# Altium schematic symbol library Solar_Phone_Charger.SchLib: 10 symbols
Pins are listed as number, name and electrical type; pins without a type are passive.

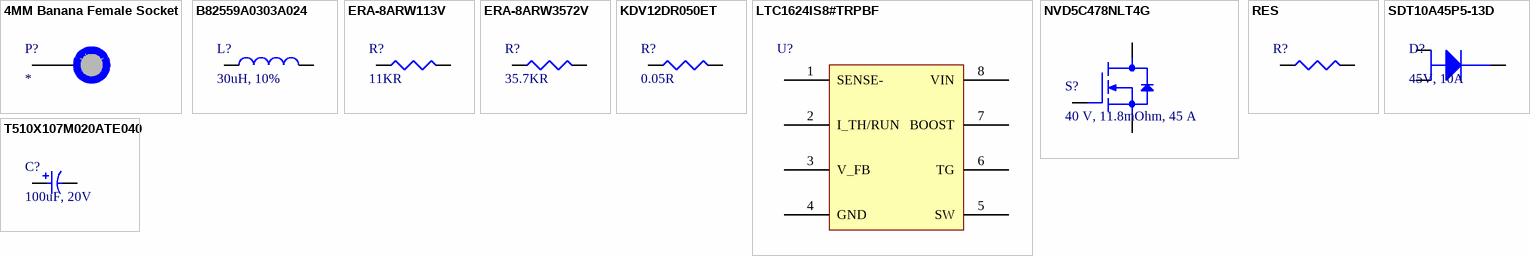
[diagram p0: symbols 4MM Banana Female Socket to T510X107M020ATE040]

## 4MM Banana Female Socket
designator P?
footprint 4MM Banana Female Socket
pins: 1

## B82559A0303A024
designator L?, comment 30uH, 10%
General Purpose Inductor, 30uH, 10%, 1 Element, Ferrite-Core, SMD, 9790; Manufacturer: TDK; Manufacturer Part Number: B82559A0303A024; Supplier 1: Digikey; RoHS: Yes; Category: Fixed Inductors; Stock 1: 910; Pricing 1: 1=8.34, 10=7.194, 25=6.6724 (USD); Supplier Part Number 1: 495-B82559A0303A024CT-ND
footprint ERU24
pins: 1, 2

## ERA-8ARW113V
designator R?, comment 11KR
Fixed Resistor, Thin Film, 0.25W, 11000ohm, 150V, 0.05% +/-Tol, 10ppm/Cel, Surface Mount, 1206; Manufacturer: Panasonic; Manufacturer Part Number: ERA-8ARW113V; Power: 250mW; Rated Temperature: 85°C; Temperature Coefficient: 10ppm/°C; Package Height: 0.6mm; Package Length: 3.2mm; Package Width: 1.6mm; Reference Standard: AEC-Q200; Supplier: Digikey; Supplier Part Number: P11KCTCT-ND; RoHS: Yes; Category: Chip SMD Resistors; Stock: 4456; Pricing: 1=1.53, 10=1.056, 50=0.7948, 100=0.6991, 500=0.54712 (USD); Mounting Technology: Surface Mount; Pins: 2; Case/Package: 1206; Terminal Finish: Nickel; Min Operating Temperature: -55°C; Max Operating Temperature: 155°C; Tolerance: 0.05%; JESD-609 Code: e3; Resistor Type: FIXED RESISTOR; Construction: Rectangular; Package Style: SMTMeter; Packaging: Tape and Reel; Value: 11kR; Technology: THIN FILM; Termination: Wraparound; Working Voltage: 150V; Reach SVHC Compliant: Yes; RoHS Compliant: Yes; ComponentLink1URL: https://datasheet.ciiva.com:443/pdfs/VipMasterIC/IC/PANA/PANA-S-A0009459258/PANA-S-A0009459258-1.pdf?src-supplier=IHS+Markit; ComponentLink1Description: https://datasheet.ciiva.com:443/pdfs/VipMasterIC/IC/PANA/PANA-S-A0009459258/PANA-S-A0009459258-1.pdf?src-supplier=IHS+Markit; ComponentLink2URL: https://media.digikey.com/pdf/Data%20Sheets/Panasonic%20Resistors%20Thermistors%20PDFs/ERA_Series_LE.pdf?src-supplier=Digikey; ComponentLink2Description: https://media.digikey.com/pdf/Data%20Sheets/Panasonic%20Resistors%20Thermistors%20PDFs/ERA_Series_LE.pdf?src-supplier=Digikey; ComponentLink3URL: http://www.farnell.com/datasheets/1937238.pdf?src-supplier=Farnell; ComponentLink3Description: http://www.farnell.com/datasheets/1937238.pdf?src-supplier=Farnell; ComponentLink4URL: http://www.farnell.com/datasheets/1937238.pdf?src-supplier=Element14; ComponentLink4Description: http://www.farnell.com/datasheets/1937238.pdf?src-supplier=Element14
footprint R1206
pins: 1, 2

## ERA-8ARW3572V
designator R?, comment 35.7KR
1206 Thin Film Chip Resistor / 1206 SMD Resistor 0.05% 10PPM 35.7 Kohm; Manufacturer: Panasonic; Manufacturer Part Number: ERA-8ARW3572V; Supplier: Digikey; Supplier Part Number: P18836CT-ND; RoHS: Yes; Category: Chip SMD Resistors; Stock: 958; Pricing: 1=1.53, 10=1.056, 50=0.7948, 100=0.6991, 500=0.54712 (USD); ComponentLink1URL: https://industrial.panasonic.com/cdbs/www-data/pdf/RDM0000/AOA0000C307.pdf?src-supplier=Digikey; ComponentLink1Description: https://industrial.panasonic.com/cdbs/www-data/pdf/RDM0000/AOA0000C307.pdf?src-supplier=Digikey
footprint R1206
pins: 1, 2

## KDV12DR050ET
designator R?, comment 0.05R
Fixed Resistor, Metal Film, 0.5W, 0.05ohm, 0.5% +/-Tol, 100ppm/Cel, Surface Mount, 1206; Manufacturer: Ohmite; Manufacturer Part Number: KDV12DR050ET; Supplier: Digikey; Supplier Part Number: 273-KDV12DR050ETCT-ND; RoHS: No; Category: Chip SMD Resistors; Stock: 2206; Pricing: 1=0.46, 10=0.312, 25=0.2428, 50=0.179, 100=0.1245, 250=0.10856, 500=0.0895, 1000=0.06475 (USD); RoHS Compliant: Yes
footprint R1206
pins: 1, 2

## LTC1624IS8#TRPBF
designator U?, comment Switching Controller  (value not drawn)
Switching Controller, Current-mode, 2A, 225kHz Switching Freq-Max, CMOS, PDSO8; Manufacturer: Analog Devices / Linear Technology; Manufacturer Part Number: LTC1624IS8#TRPBF; Package Body Material: Plastic; Control Technique: PULSE WIDTH MODULATION; Max Supply Voltage: 36V; Min Input Voltage: 3.5V; Nominal Supply Voltage: 15V; Channels: 1; Switcher Configuration: SINGLE; Time @ Peak Reflow Temperature-Max (s): 30s; Qualification Status: Not Qualified; Supplier 1: Digikey; RoHS: Yes; Category: Voltage Regulators - Switching; Stock 1: 2084; Pricing 1: 1=11.26, 10=10.351, 25=9.9216, 100=8.7419, 250=8.3128, 500=7.7765, 1000=7.13292 (USD); Case/Package: SOP; Pins: 8; Package Shape: Rectangular; Terminal Finish: Tin; Min Operating Temperature: -40°C; Max Operating Temperature: 85°C; JESD-609 Code: e3; Throw Configuration: SWITCHING CONTROLLER; Control Mode: CURRENT-MODE; JESD-30 Code: R-PDSO-G8; Moisture Sensitivity Level: 1; Max Output current: 2A; Package Style: SMALL OUTLINEMeter; Peak Reflow Temperature (Cel): 260°C; Surface Mount: Yes; Frequency: 225kHz; Technology: CMOS; Terminal Form: Gull Wing; Terminal Position: DUAL; Length: 4.9025mm; Width: 3.899mm; Height - Seated (Max): 1.752mm; Terminal Pitch: 1.27mm; Temperature Grade: INDUSTRIAL; Reach SVHC Compliant: Yes; RoHS Compliant: Yes; ComponentLink1URL: https://datasheet.ciiva.com:443/pdfs/VipMasterIC/IC/LITC/LITCS09260/LITCS09260-1.pdf?src-supplier=IHS+Markit; ComponentLink1Description: https://datasheet.ciiva.com:443/pdfs/VipMasterIC/IC/LITC/LITCS09260/LITCS09260-1.pdf?src-supplier=IHS+Markit; ComponentLink2URL: https://datasheet.ciiva.com/15110/getdatasheetpartid-44556-15110797.pdf?src-supplier=Verical; ComponentLink2Description: https://datasheet.ciiva.com/15110/getdatasheetpartid-44556-15110797.pdf?src-supplier=Verical; Supplier Part Number 1: 505-LTC1624IS8#TRPBFCT-ND
footprint LTC1624
pins: 1 SENSE-, 2 I_TH/RUN, 3 V_FB, 4 GND, 5 SW, 6 TG, 7 BOOST, 8 VIN

## NVD5C478NLT4G
designator S?, comment 40 V, 11.8mOhm, 45 A
Single N-Channel Power MOSFET, 40V, 45A, 7.7mΩ DPAK 2500 tape and reel; Manufacturer: ON Semiconductor; Manufacturer Part Number: NVD5C478NLT4G; Supplier 1: Digikey; RoHS: Yes; Category: MOSFETs; Stock 1: 6434; Pricing 1: 1=1.65, 10=1.368, 100=1.0891, 500=0.92158, 1000=0.78194 (USD); Reach SVHC Compliant: No; ComponentLink1URL: https://datasheet.ciiva.com:443/pdfs/VipMasterIC/IC/ONSM/ONSM-S-A0004900107/ONSM-S-A0004903403-1.pdf?src-supplier=IHS+Markit; ComponentLink1Description: https://datasheet.ciiva.com:443/pdfs/VipMasterIC/IC/ONSM/ONSM-S-A0004900107/ONSM-S-A0004903403-1.pdf?src-supplier=IHS+Markit; ComponentLink2URL: http://www.onsemi.com/pub/Collateral/NVD5C478NL-D.PDF?src-supplier=Digikey; ComponentLink2Description: http://www.onsemi.com/pub/Collateral/NVD5C478NL-D.PDF?src-supplier=Digikey; Supplier Part Number 1: NVD5C478NLT4GOSCT-ND
footprint DPAKSWITCH
pins: 1 G, 2 D, 3 S

## RES
designator R?
Generic 1206 Resistor; Manufacturer: Panasonic; Manufacturer Part Number: ERA-8ARW3572V; Supplier: Digikey; Supplier Part Number: P18836CT-ND; RoHS: Yes; Category: Chip SMD Resistors; Stock: 958; Pricing: 1=1.53, 10=1.056, 50=0.7948, 100=0.6991, 500=0.54712 (USD); ComponentLink1URL: https://industrial.panasonic.com/cdbs/www-data/pdf/RDM0000/AOA0000C307.pdf?src-supplier=Digikey; ComponentLink1Description: https://industrial.panasonic.com/cdbs/www-data/pdf/RDM0000/AOA0000C307.pdf?src-supplier=Digikey
footprint R1206
pins: 1, 2

## SDT10A45P5-13D
designator D?, comment 45V, 10A
Diode Schottky 45V 10A 5-Pin PowerDI T/R; Manufacturer: Diodes; Manufacturer Part Number: SDT10A45P5-13D; Supplier: Digikey; Supplier Part Number: 31-SDT10A45P5-13DCT-ND; RoHS: Yes; Stock: 4970; Pricing: 1=0.51, 10=0.394, 100=0.2362, 500=0.21866, 1000=0.14869, 2000=0.13689 (USD); Reach SVHC Compliant: No; ComponentLink1URL: https://datasheet.ciiva.com:443/pdfs/VipMasterIC/IC/DIOD/DIOD-S-A0008345900/DIOD-S-A0008345900-1.pdf?src-supplier=IHS+Markit; ComponentLink1Description: https://datasheet.ciiva.com:443/pdfs/VipMasterIC/IC/DIOD/DIOD-S-A0008345900/DIOD-S-A0008345900-1.pdf?src-supplier=IHS+Markit
footprint PowerDI5
pins: 1, 2, 3

## T510X107M020ATE040
designator C?, comment 100uF, 20V
Tantalum Capacitor, Polarized, Tantalum (dry/solid), 20V, 20% +Tol, 20% -Tol, 100uF, Surface Mount, 2917; Manufacturer: KEMET; Manufacturer Part Number: T510X107M020ATE040; ESR (Equivalent Series Resistance): 40mR; Leakage Current: 20uA; Ripple Current: 2.338A; Tan Delta: 0.06; Supplier: Digikey; Supplier Part Number: 399-4651-1-ND; RoHS: Yes; Category: Tantalum Capacitors; Stock: 12028; Pricing: 1=7, 10=6.066, 50=5.444, 100=4.7284 (USD); Mounting Technology: Surface Mount; Pins: 2; Dielectric Material: Tantalum; Package Shape: Rectangular; Case/Package: 2917; Terminal Finish: Nickel; Min Operating Temperature: -55°C; Max Operating Temperature: 125°C; JESD-609 Code: e3; Polarity: Polarized; Value: 100uF; Capacitor Type: Tantalum; Tolerance  (fill in as +-): 20%; Package Style: SMTMeter; Packaging: Tape and Reel; Tolerance (fill in as +-): 20%; Rated DC Voltage (URdc): 20V; Termination: J BEND; Length: 7.3mm; Width: 4.3mm; Height: 4mm; Reach SVHC Compliant: Yes; RoHS Compliant: Yes; ComponentLink1URL: https://datasheet.ciiva.com:443/pdfs/VipMasterIC/IC/KEME/KEME-S-A0009825253/KEME-S-A0009825253-1.pdf?src-supplier=IHS+Markit; ComponentLink1Description: https://datasheet.ciiva.com:443/pdfs/VipMasterIC/IC/KEME/KEME-S-A0009825253/KEME-S-A0009825253-1.pdf?src-supplier=IHS+Markit; ComponentLink2URL: https://datasheet.ciiva.com/263/kem-t2014-t510-263058.pdf?src-supplier=Digikey; ComponentLink2Description: https://datasheet.ciiva.com/263/kem-t2014-t510-263058.pdf?src-supplier=Digikey; ComponentLink3URL: https://datasheet.ciiva.com/23879/1744577-23879893.pdf?src-supplier=Newark; ComponentLink3Description: https://datasheet.ciiva.com/23879/1744577-23879893.pdf?src-supplier=Newark; ComponentLink4URL: https://datasheet.ciiva.com/263/kem-t2014-t510-263059.pdf?src-supplier=Digikey; ComponentLink4Description: https://datasheet.ciiva.com/263/kem-t2014-t510-263059.pdf?src-supplier=Digikey; ComponentLink5URL: https://datasheet.ciiva.com/263/kem-t2014-t510-263060.pdf?src-supplier=Digikey; ComponentLink5Description: https://datasheet.ciiva.com/263/kem-t2014-t510-263060.pdf?src-supplier=Digikey; ComponentLink6URL: https://datasheet.ciiva.com/22677/1744577-22677223.pdf?src-supplier=Element14; ComponentLink6Description: https://datasheet.ciiva.com/22677/1744577-22677223.pdf?src-supplier=Element14; ComponentLink7URL: https://datasheet.ciiva.com/22691/1744577-22691462.pdf?src-supplier=Element14; ComponentLink7Description: https://datasheet.ciiva.com/22691/1744577-22691462.pdf?src-supplier=Element14
footprint C2917
pins: 1, 2